# Altium footprint library Hamamatsu.PcbLib: 3 footprints
Each footprint in its own frame and in the unit in brackets; x right, y up, seen from the top. Pads: shape width x height; smd on the part's side, far side on the other; paste and mask are expansions set on the pad; w line width, h text height; cw(c..) or ccw(c..) is an arc to the next point about the centre after c.
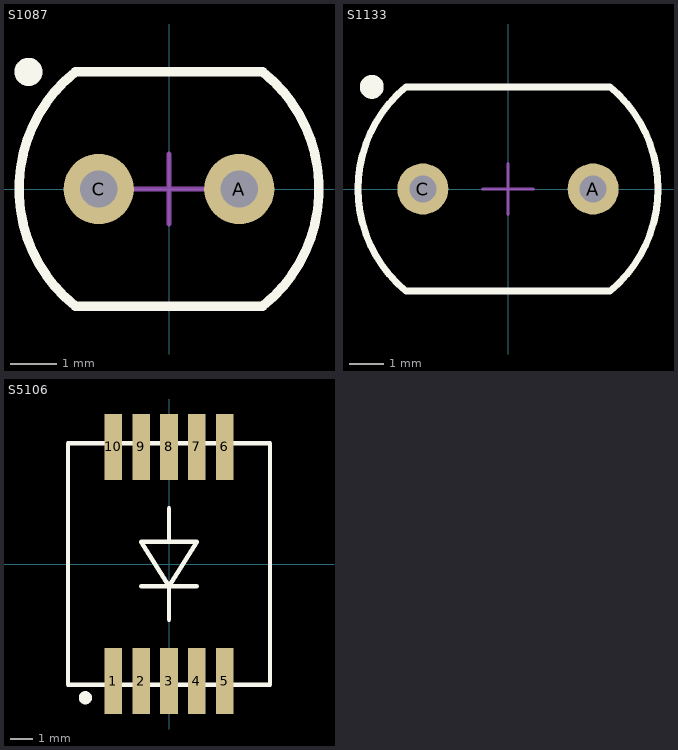
[diagram p0: the footprints below, top view; thin cyan lines are the x and y axes]

## S1087 [mm] "Photo Diode, Through Hole"
height 1.5
pads (2):
  round 1.5 hole 0.8: A(1.5,0) C(-1.5,0)
Top Overlay:
  circle w0.4: c-3,2.5 r0.1
  lines w0.2: -2,-2.5 cw(c0,0) -2,2.5 2,2.5 cw(c0,0) 2,-2.5 -2,-2.5
Mechanical 13:
  lines w0.05: -2,-2.5 cw(c0,0) -2,2.5 2,2.5 cw(c0,0) 2,-2.5 -2,-2.5
Mechanical 15:
  lines w0.1: -0.75,0 0.75,0 ; 0,-0.75 0,0.75
3D body "s1087.step": height 1.5, standoff -10, extent -3,-2.5 3,2.5

## S1133 [mm] "Photo Diode, Through Hole"
height 1.5
pads (2):
  round 1.5 hole 0.8: A(2.5,0) C(-2.5,0)
Top Overlay:
  circle w0.5: c-4,3 r0.1
  lines w0.2: -3,-3 cw(c-0.5,0) -3,3 3,3 cw(c0.5,0) 3,-3 -3,-3
Mechanical 13:
  lines w0.05: -3,-3 cw(c-0.5,0) -3,3 3,3 cw(c0.5,0) 3,-3 -3,-3
Mechanical 15:
  lines w0.1: -0.75,0 0.75,0 ; 0,-0.75 0,0.75
3D body "s1133.step": height 1.5, standoff -10, extent -4.243,-3 4.243,3

## S5106 [mm] "Photo Diode, SMD"
height 1.26
pads (10):
  rect 0.8x3 smd: 1(-2.54,-5.334) 2(-1.27,-5.334) 3(0,-5.334) 4(1.27,-5.334) 5(2.54,-5.334) 6(2.54,5.334) 7(1.27,5.334) 8(0,5.334) 9(-1.27,5.334) 10(-2.54,5.334)
Top Overlay:
  circle w0.4: c-3.81,-6.096 r0.1
  lines w0.2: -1.27,-1.016 1.27,-1.016 ; 0,-2.54 0,-1.016 ; 0,1.016 0,2.54 ; 0,-1.016 -1.27,1.016 1.27,1.016 0,-1.016 ; -4.6,-5.5 -4.6,5.5 4.6,5.5 4.6,-5.5 -4.6,-5.5
3D body "HAM_S5106.stp": height 1.26, standoff 0, extent -4.4,-5.3 4.4,5.3